# EAGLE library part YY2841AS (library gone)
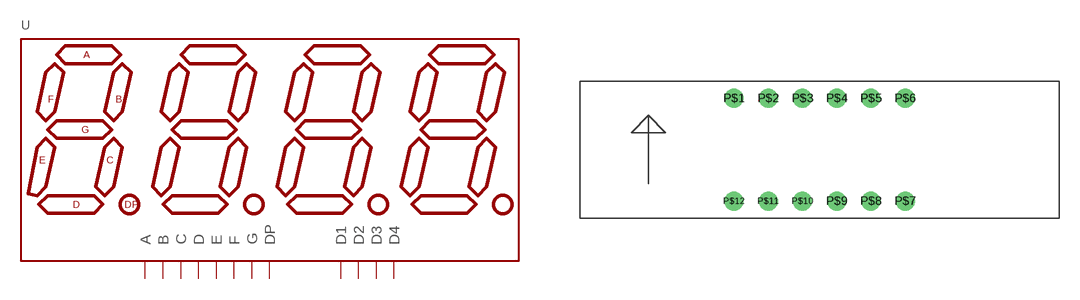
[diagram p9: symbol with the pads of YY2841AS; footprint YY2841AS]

Designator prefix -

## YY2841AS  [YY2841AS]
P$1  D1
P$2  A
P$3  F
P$4  D2
P$5  D3
P$6  B
P$7  D4
P$8  G
P$9  C
P$10  DP
P$11  D
P$12  E

## Footprint YY2841AS (pad centres in mm)
drill 0.9: P$1 -6.35,3.81; P$2 -3.81,3.81; P$3 -1.27,3.81; P$4 1.27,3.81; P$5 3.81,3.81; P$6 6.35,3.81; P$7 6.35,-3.81; P$8 3.81,-3.81; P$9 1.27,-3.81; P$10 -1.27,-3.81; P$11 -3.81,-3.81; P$12 -6.35,-3.81